# EAGLE library part STWLC38JRM (library ST)
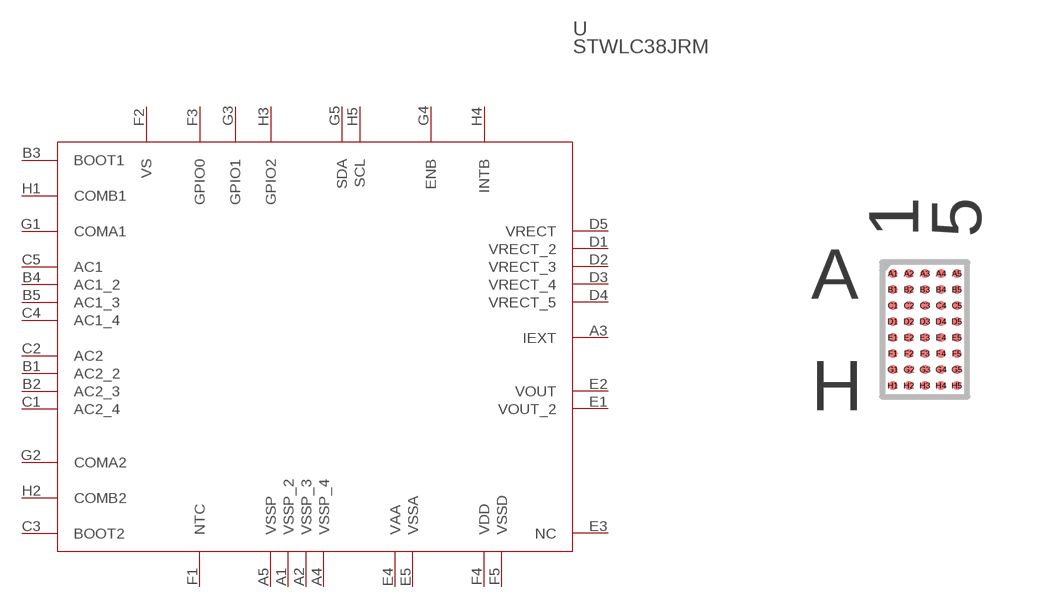
[diagram p2: symbol with the pads of WLCSP40_2P1X2P8_STM; footprint WLCSP40_2P1X2P8_STM]

Designator prefix U

## STWLC38JRM (COPYRIGHT: Copyright (C) 2023 Ultra Librarian. All rights reserved.; MANUFACTURER_PART_NUMBER: STWLC38JRM; MFR_NAME: STMicroelectronics)  [WLCSP40_2P1X2P8_STM]
A1  VSSP_2  pas
A2  VSSP_3  pas
A3  IEXT  pas
A4  VSSP_4  pas
A5  VSSP  pas
B1  AC2_2
B2  AC2_3
B3  BOOT1
B4  AC1_2
B5  AC1_3
C1  AC2_4
C2  AC2
C3  BOOT2
C4  AC1_4
C5  AC1
D1  VRECT_2  pas
D2  VRECT_3  pas
D3  VRECT_4  pas
D4  VRECT_5  pas
D5  VRECT  pas
E1  VOUT_2  out
E2  VOUT  out
E3  NC  nc
E4  VAA  pas
E5  VSSA  pas
F1  NTC  pas
F2  VS  pas
F3  GPIO0
F4  VDD  pwr
F5  VSSD  pas
G1  COMA1
G2  COMA2
G3  GPIO1
G4  ENB  pas
G5  SDA  pas
H1  COMB1
H2  COMB2
H3  GPIO2
H4  INTB  in
H5  SCL  pas

## Footprint WLCSP40_2P1X2P8_STM (pad centres in mm)
smd 0.229 x 0.229: A1 -0.8,1.4; A2 -0.4,1.4; A3 0,1.4; A4 0.4,1.4; A5 0.8,1.4; B1 -0.8,1; B2 -0.4,1; B3 0,1; B4 0.4,1; B5 0.8,1; C1 -0.8,0.6; C2 -0.4,0.6; C3 0,0.6; C4 0.4,0.6; C5 0.8,0.6; D1 -0.8,0.2; D2 -0.4,0.2; D3 0,0.2; D4 0.4,0.2; D5 0.8,0.2; E1 -0.8,-0.2; E2 -0.4,-0.2; E3 0,-0.2; E4 0.4,-0.2; E5 0.8,-0.2; F1 -0.8,-0.6; F2 -0.4,-0.6; F3 0,-0.6; F4 0.4,-0.6; F5 0.8,-0.6; G1 -0.8,-1; G2 -0.4,-1; G3 0,-1; G4 0.4,-1; G5 0.8,-1; H1 -0.8,-1.4; H2 -0.4,-1.4; H3 0,-1.4; H4 0.4,-1.4; H5 0.8,-1.4